# Altium schematic symbol library MMBT3906,215.Schlib: 1 symbol
Pins are listed as number, name and electrical type; pins without a type are passive.

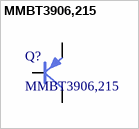
[diagram p0: symbol MMBT3906,215]

## MMBT3906,215
designator Q?
pins: 1 B, 2 E, 3 C